# Altium footprint library Посадочные места.PcbLib: 41 footprints (part 1 of 3)
Each footprint in its own frame and in the unit in brackets; x right, y up, seen from the top. Pads: shape width x height; smd on the part's side, far side on the other; paste and mask are expansions set on the pad; w line width, h text height; cw(c..) or ccw(c..) is an arc to the next point about the centre after c.
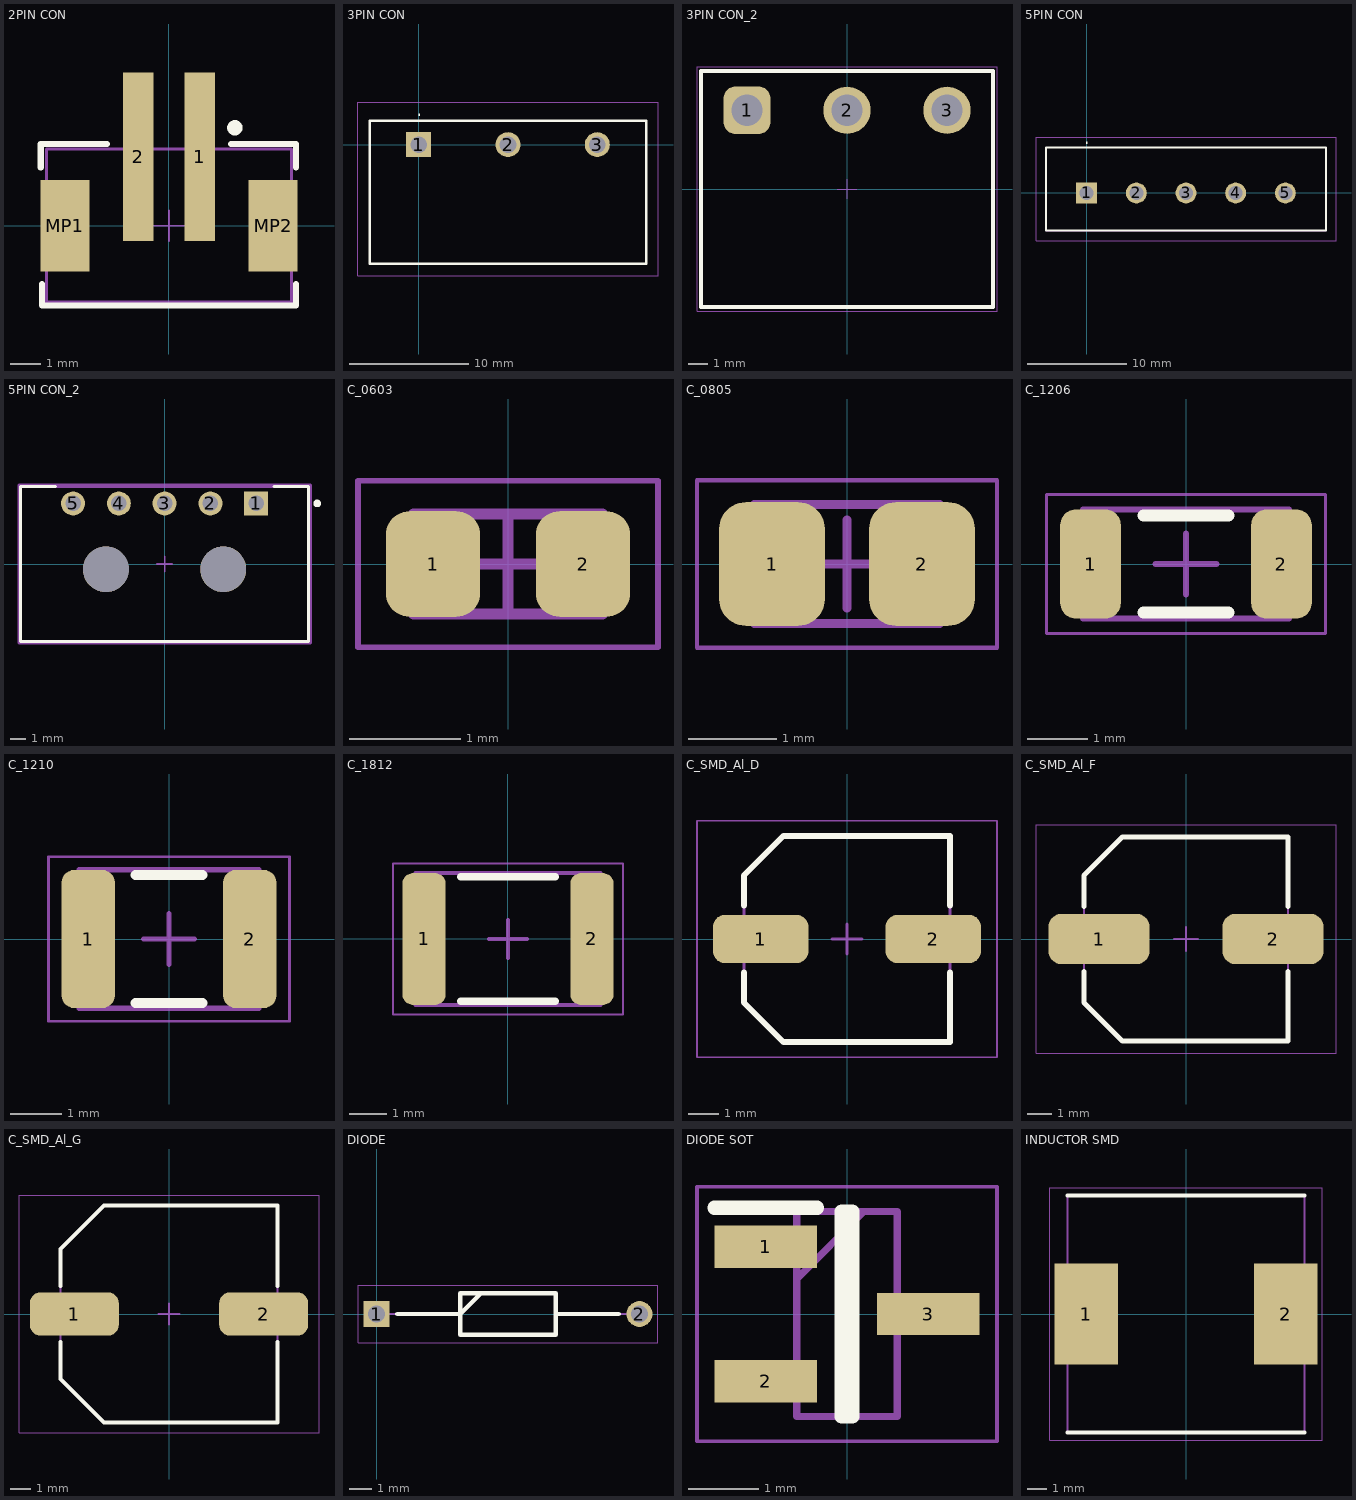
[diagram p0: the footprints below, top view; thin cyan lines are the x and y axes]

## 2PIN CON [mm] "2.00mm SMT Male Vertical Shrouded Header, 2p"
height 6.86
pads (4):
  rect 1x5.5 smd: 1(1,2.25) 2(-1,2.25)
  rect 1.6x3 smd: MP1(-3.4,0) MP2(3.4,0)
Top Overlay:
  circle w0.25: c2.15,3.2 r0.125
  lines w0.2: -4.191,1.905 -4.191,2.667 -2.032,2.667 ; -4.15,-1.905 -4.15,-2.6 4.15,-2.6 4.15,-1.905 ; 2.032,2.667 4.15,2.667 4.15,1.905
Top Courtyard:
  lines w0.05: -0.5,0 0.5,0 ; 0,-0.5 0,0.5
Top Component Outline:
  lines w0.1: -4,-2.5 -4,2.5 4,2.5 4,-2.5 -4,-2.5
3D body "620302124022.stp": height 6.77, standoff -0.01, extent -4,-2.5 4,4.51

## 3PIN CON [mm]
pads (3):
  rect 2.1x2.1 hole 1.4: 1(0,0)
  round 2.1 hole 1.4: 2(7.5,0) 3(15,0)
Top Overlay:
  lines w0.1: 0,2.5 ccw(c0.05,2.5) 0.1,2.5 ccw(c0.05,2.5) 0,2.5
  lines w0.2: -4.1,-10 19.1,-10 19.1,2 -4.1,2 -4.1,-10
Mechanical 13:
  lines w0.1: -4.1,-10 19.1,-10 19.1,2 -4.1,2 -4.1,-10
Mechanical 15:
  lines w0.1: -5.1,-11 20.1,-11 20.1,3.55 -5.1,3.55 -5.1,-11
3D body "231-833_001-000_105-604.stp": height 8.35, standoff -2.4, extent -4,-10 19,2

## 3PIN CON_2 [mm] "THR - 5,08mm - PCB Horizontal Open - 03p"
height 8.4
pads (3):
  rrect50% 2.4x2.4 hole 1.6: 1(-5.08,4)
  round 2.4 hole 1.6: 2(0,4) 3(5.08,4)
Top Overlay:
  lines w0.2: -7.42,-6 -7.42,6 7.42,6 7.42,-6 -7.42,-6
Top 3D Body:
  lines w0.1: -7.42,-6 -7.42,6 7.42,6 7.42,-6 -7.42,-6
Top Courtyard:
  lines w0.05: -7.62,-6.2 7.62,-6.2 7.62,6.2 -7.62,6.2 -7.62,-6.2
Top Component Outline:
  lines w0.1: -7.42,-6 7.42,-6 7.42,6 -7.42,6 -7.42,-6
Top Component Center:
  lines w0.05: -0.5,0 0.5,0 ; 0,-0.5 0,0.5
3D body "691701530003B.stp": height 8.6, standoff -2.7, extent -7.42,-6 7.42,6

## 5PIN CON [mm]
pads (5):
  rect 2.1x2.1 hole 1.4: 1(0,0)
  round 2.1 hole 1.4: 2(5,0) 3(10,0) 4(15,0) 5(20,0)
Top Overlay:
  lines w0.1: 0,5 ccw(c0,5.05) 0,5.1 ccw(c0,5.05) 0,5
  lines w0.2: -4.1,-3.8 -4.1,4.6 24.1,4.6 24.1,-3.8 -4.1,-3.8
Mechanical 13:
  lines w0.1: -4.1,-3.8 -4.1,4.6 24.1,4.6 24.1,-3.8 -4.1,-3.8
Mechanical 15:
  lines w0.1: -5.1,-4.8 -5.1,5.6 25.1,5.6 25.1,-4.8 -5.1,-4.8
3D body "231-135_001-000.stp": height 12, standoff -5, extent -4.1,-3.8 24.1,4.6

## 5PIN CON_2 [mm]
pads (7):
  rect 1.57x1.57 hole 1.02 paste-2539.97 mask+0: 1(6,3.97)
  round 1.57 hole 1.02 paste-2539.97 mask+0: 2(3,3.97) 3(0,3.97) 4(-3,3.97) 5(-6,3.97)
  round 3 hole 3 unplated paste-2539.97 mask+0: ""(-3.85,-0.35) ""(3.85,-0.35)
Top Overlay:
  circle w0.25: c9.995,3.97 r0.125
  lines w0.2: -7.16,5.075 -9.445,5.075 -9.445,-5.075 9.445,-5.075 9.445,5.075 7.16,5.075
Top Assembly:
  lines w0.2: -9.545,-5.175 9.545,-5.175 9.545,5.175 -9.545,5.175 -9.545,-5.175
  text ".Designator" at 0,0.188 h1
Top 3D Body:
  lines w0.2: -9.445,-5.075 9.445,-5.075 9.445,5.075 -9.445,5.075 -9.445,-5.075
Top Courtyard:
  lines w0.2: -9.545,-5.175 9.545,-5.175 9.545,5.175 -9.545,5.175 -9.545,-5.175
Top Component Center:
  lines w0.1: -0.5,0 0.5,0 ; 0,-0.5 0,0.5
3D body "Conn_Molex_43650-0501_eec.STEP": height 0.25, standoff 0, extent -9.545,-5.175 9.545,5.175

## C_0603 [mm] "Chip Capacitor, 2-Leads, Body 1.60x0.80mm, IPC Medium Density"
height 0.9
pads (2):
  rrect50% 0.85x0.95 smd: 1(-0.675,0) 2(0.675,0)
Mechanical 14:
  lines w0.1: -0.85,-0.45 -0.85,0.45 0.85,0.45 0.85,-0.45 -0.85,-0.45
Mechanical 15:
  lines w0.05: -1.35,-0.75 -1.35,0.75 1.35,0.75 1.35,-0.75 -1.35,-0.75
  lines w0.1: -0.45,0 0.45,0 ; 0,-0.45 0,0.45
3D body "C_0603.step": height 0.9, standoff 0, extent -0.875,-0.475 0.875,0.475

## C_0805 [mm] "Chip Capacitor, 2-Leads, Body 2.00x1.25mm, IPC Medium Density"
height 0.7
pads (2):
  rrect50% 1.2x1.4 smd: 1(-0.85,0) 2(0.85,0)
Mechanical 14:
  lines w0.1: -1.05,-0.675 -1.05,0.675 1.05,0.675 1.05,-0.675 -1.05,-0.675
Mechanical 15:
  lines w0.05: -1.7,-0.95 -1.7,0.95 1.7,0.95 1.7,-0.95 -1.7,-0.95
  lines w0.1: -0.5,0 0.5,0 ; 0,-0.5 0,0.5
3D body "C_0805.step": height 1.45, standoff 0, extent -1.1,-0.725 1.1,0.725

## C_1206 [mm] "Chip Capacitor, 2-Leads, Body 3.20x1.60mm, IPC Medium Density"
height 1.25
pads (2):
  rrect50% 1x1.8 smd: 1(-1.575,0) 2(1.575,0)
Top Overlay:
  lines w0.2: -0.7,-0.8 0.7,-0.8 ; -0.7,0.8 0.7,0.8
Mechanical 14:
  lines w0.1: -1.7,-0.9 -1.7,0.9 1.7,0.9 1.7,-0.9 -1.7,-0.9
Mechanical 15:
  lines w0.05: -2.3,-1.15 -2.3,1.15 2.3,1.15 2.3,-1.15 -2.3,-1.15
  lines w0.1: -0.5,0 0.5,0 ; 0,-0.5 0,0.5
3D body "C_1206.step": height 1.8, standoff 0, extent -1.75,-0.9 1.75,0.9

## C_1210 [mm] "Chip Capacitor, 2-Leads, Body 3.20x2.50mm, IPC Medium Density"
height 2.7
pads (2):
  rrect50% 1.05x2.7 smd: 1(-1.575,0) 2(1.575,0)
Top Overlay:
  lines w0.2: -0.65,-1.25 0.65,-1.25 ; -0.65,1.25 0.65,1.25
Mechanical 14:
  lines w0.1: -1.75,-1.35 -1.75,1.35 1.75,1.35 1.75,-1.35 -1.75,-1.35
Mechanical 15:
  lines w0.05: -2.35,-1.6 -2.35,1.6 2.35,1.6 2.35,-1.6 -2.35,-1.6
  lines w0.1: -0.5,0 0.5,0 ; 0,-0.5 0,0.5
3D body "C_1210.step": height 2.7, standoff 0, extent -1.8,-1.4 1.8,1.4

## C_1812 [mm] "Chip Capacitor, 2-Leads, Body 4.50x3.20mm, IPC Medium Density"
height 2.5
pads (2):
  rrect50% 1.15x3.5 smd: 1(-2.225,0) 2(2.225,0)
Top Overlay:
  lines w0.2: -1.25,-1.65 1.25,-1.65 ; -1.25,1.65 1.25,1.65
Mechanical 14:
  lines w0.1: -2.45,-1.75 -2.45,1.75 2.45,1.75 2.45,-1.75 -2.45,-1.75
Mechanical 15:
  lines w0.05: -3.05,-2 -3.05,2 3.05,2 3.05,-2 -3.05,-2
  lines w0.1: -0.5,0 0.5,0 ; 0,-0.5 0,0.5
3D body "C_1812.step": height 2.7, standoff 0, extent -2.45,-1.8 2.45,1.8

## C_SMD_Al_D [mm] "Aluminum Electrolytic Capacitor, Body 6.60x6.60x6.10mm, IPC Medium Density"
height 6.1
pads (2):
  rrect50% 3.15x1.6 smd: 1(-2.85,0) 2(2.85,0)
Top Overlay:
  lines w0.2: -3.4,-1.1 -3.4,-2.1 -2.1,-3.4 3.4,-3.4 3.4,-1.1 ; -3.4,1.1 -3.4,2.1 -2.1,3.4 3.4,3.4 3.4,1.1
Mechanical 14:
  lines w0.1: -3.4,-2.1 -2.1,-3.4 3.4,-3.4 3.4,3.4 -2.1,3.4 -3.4,2.1 -3.4,-2.1
Mechanical 15:
  lines w0.05: -4.95,-3.9 -4.95,3.9 4.95,3.9 4.95,-3.9 -4.95,-3.9
  lines w0.1: -0.5,0 0.5,0 ; 0,-0.5 0,0.5
3D body "SMD_Al_D.step": height 6.1, standoff -0.2, extent -3.85,-3.4 3.85,3.4

## C_SMD_Al_F [mm] "Aluminum Electrolytic Capacitor, Body 8.30x8.30x10.50mm, IPC Medium Density"
height 10.5
pads (2):
  rrect50% 4.2x2.1 smd: 1(-3.625,0) 2(3.625,0)
Top Overlay:
  lines w0.2: -4.25,-1.35 -4.25,-2.65 -2.65,-4.25 4.25,-4.25 4.25,-1.35 ; -4.25,1.35 -4.25,2.65 -2.65,4.25 4.25,4.25 4.25,1.35
Mechanical 14:
  lines w0.1: -4.25,-2.65 -2.65,-4.25 4.25,-4.25 4.25,4.25 -2.65,4.25 -4.25,2.65 -4.25,-2.65
Mechanical 15:
  lines w0.05: -6.25,-4.75 -6.25,4.75 6.25,4.75 6.25,-4.75 -6.25,-4.75
  lines w0.1: -0.5,0 0.5,0 ; 0,-0.5 0,0.5
3D body "SMD_Al_F.step": height 10.5, standoff 0, extent -4.95,-4.25 4.95,4.25

## C_SMD_Al_G [mm] "Aluminum Electrolytic Capacitor, Body 10.30x10.30x10.50mm, IPC Medium Density"
height 10.5
pads (2):
  rrect50% 4.3x2.1 smd: 1(-4.575,0) 2(4.575,0)
Top Overlay:
  lines w0.2: -5.25,-1.35 -5.25,-3.15 -3.15,-5.25 5.25,-5.25 5.25,-1.35 ; -5.25,1.35 -5.25,3.15 -3.15,5.25 5.25,5.25 5.25,1.35
Mechanical 14:
  lines w0.1: -5.25,-3.15 -3.15,-5.25 5.25,-5.25 5.25,5.25 -3.15,5.25 -5.25,3.15 -5.25,-3.15
Mechanical 15:
  lines w0.05: -7.25,-5.75 -7.25,5.75 7.25,5.75 7.25,-5.75 -7.25,-5.75
  lines w0.1: -0.5,0 0.5,0 ; 0,-0.5 0,0.5
3D body "SMD_Al_G.step": height 10.5, standoff 0, extent -5.95,-5.25 5.95,5.25

## DIODE [mm] "BA315, 1N5817"
pads (2):
  rect 1.15x1.15 hole 0.75: 1(0,0)
  round 1.15 hole 0.75: 2(11.7,0)
Top Overlay:
  lines w0.2: 0.925,0 3.725,0 4.65,0.925 ; 7.975,0 10.775,0 ; 3.725,-0.925 7.975,-0.925 7.975,0.925 3.725,0.925 3.725,-0.925
Mechanical 13:
  lines w0.1: 0,0 3.725,0 4.65,0.925 ; 7.975,0 11.7,0 ; 3.725,-0.925 7.975,-0.925 7.975,0.925 3.725,0.925 3.725,-0.925
Mechanical 15:
  lines w0.05: -0.825,-1.275 12.525,-1.275 12.525,1.275 -0.825,1.275 -0.825,-1.275
3D body "BA315.stp": height 1.85, standoff -1.85, extent -0.28,-0.918 11.93,0.918

## DIODE SOT [mm]
pads (3):
  rect 1.45x0.6 smd: 1(-1.15,0.955) 2(-1.15,-0.955) 3(1.15,0)
Top Overlay:
  lines w0.2: -1.875,1.505 -0.425,1.505 ; -0.075,-1.45 -0.075,1.45 0.075,1.45 0.075,-1.45 -0.075,-1.45
Mechanical 13:
  lines w0.1: -0.712,0.495 0.242,1.45 ; -0.712,-1.45 -0.712,1.45 0.712,1.45 0.712,-1.45 -0.712,-1.45
Mechanical 15:
  lines w0.05: -2.125,-1.8 -2.125,1.8 2.125,1.8 2.125,-1.8 -2.125,-1.8
3D body "BZX84C3V3.stp": height 1.4, standoff 0, extent -1.3,-1.45 1.3,1.45

## INDUCTOR SMD [mm]
pads (2):
  rect 3.2x5.1 smd: 1(-5.05,0) 2(5.05,0)
Top Overlay:
  lines w0.2: -6,-6 6,-6 ; -6,6 6,6
Mechanical 13:
  lines w0.1: -6,-6 6,-6 6,6 -6,6 -6,-6
Mechanical 15:
  lines w0.05: -6.9,-6.4 6.9,-6.4 6.9,6.4 -6.9,6.4 -6.9,-6.4
3D body "CDRH127L125NP-7R5NC.stp": height 8, standoff 0, extent -6,-6 6,6